# Altium footprint library CMT050203SMTTR.PcbLib: 1 footprints
Each footprint in its own frame and in the unit in brackets; x right, y up, seen from the top. Pads: shape width x height; smd on the part's side, far side on the other; paste and mask are expansions set on the pad; w line width, h text height; cw(c..) or ccw(c..) is an arc to the next point about the centre after c.
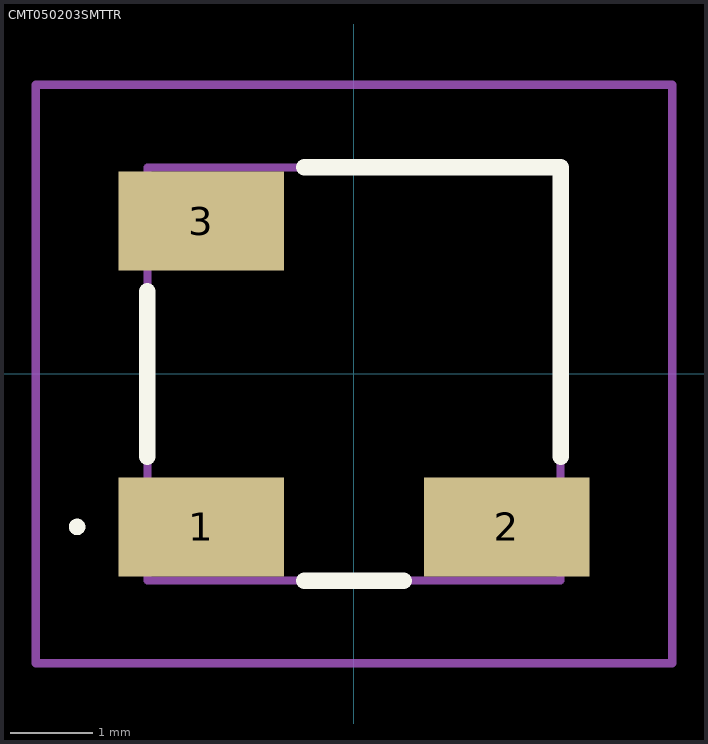
[diagram p0: the footprint, top view; thin cyan lines are the x and y axes]

## CMT050203SMTTR [mm]
pads (3):
  rect 2x1.2 smd: 1(-1.85,-1.85) 2(1.85,-1.85) 3(-1.85,1.85)
Top Overlay:
  lines w0.1: -3.4,-1.85 -3.4,-1.85 ; -3.4,-1.85 ccw(c-3.35,-1.85) -3.3,-1.85 ; -3.4,-1.85 cw(c-3.35,-1.85) -3.3,-1.85 ; -3.3,-1.85 -3.3,-1.85
  lines w0.2: -2.5,-1 -2.5,1 ; -0.6,-2.5 0.6,-2.5 ; -0.6,2.5 2.5,2.5 2.5,-1
Mechanical 15:
  lines w0.1: -2.5,-2.5 2.5,-2.5 2.5,2.5 -2.5,2.5 -2.5,-2.5
Mechanical 20:
  lines w0.1: -3.85,-3.5 3.85,-3.5 3.85,3.5 -3.85,3.5 -3.85,-3.5